# Altium footprint library PLH_ALL.PcbLib: 2 footprints
Each footprint in its own frame and in the unit in brackets; x right, y up, seen from the top. Pads: shape width x height; smd on the part's side, far side on the other; paste and mask are expansions set on the pad; w line width, h text height; cw(c..) or ccw(c..) is an arc to the next point about the centre after c.
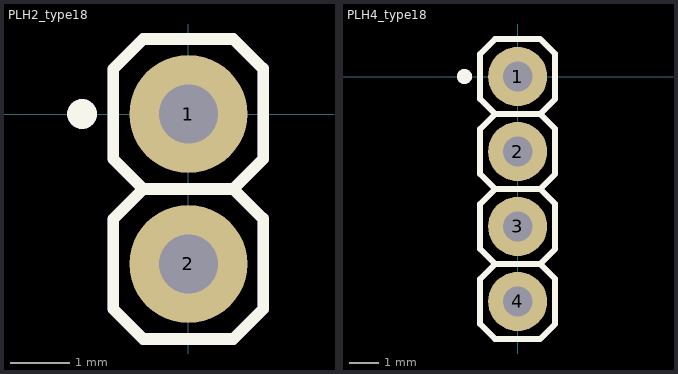
[diagram p0: the footprints below, top view; thin cyan lines are the x and y axes]

## PLH2_type18 [mm] "Connfly https://static.chipdip.ru/lib/530/DOC059530234.pdf"
pads (2):
  round 2 hole 1: 1(0,0) 2(0,-2.54)
Top Overlay:
  circle w0.254: c-1.8,0 r0.125
  lines w0.2: 1.27,-1.778 0.762,-1.27 ; 1.27,-1.77 1.27,-3.302 0.762,-3.81 -0.762,-3.81 -1.27,-3.302 -1.27,-1.778 -0.762,-1.27 ; 1.27,0.762 0.762,1.27 -0.762,1.27 -1.27,0.762 -1.27,-0.762 -0.762,-1.27 ; 1.27,0.77 1.27,-0.762 0.762,-1.27 ; -0.762,-1.27 0.762,-1.27
Bottom Overlay:
  circle w0.254: c-1.8,0 r0.125
Mechanical 13:
  circle w0.254: c-1.8,0 r0.125
  lines w0.2: 1.27,-1.778 0.762,-1.27 ; 1.27,-1.77 1.27,-3.302 0.762,-3.81 -0.762,-3.81 -1.27,-3.302 -1.27,-1.778 -0.762,-1.27 ; 1.27,0.762 0.762,1.27 -0.762,1.27 -1.27,0.762 -1.27,-0.762 -0.762,-1.27 ; 1.27,0.77 1.27,-0.762 0.762,-1.27 ; -0.762,-1.27 0.762,-1.27
  text ".Designator" at -4.2,1.98 h2.15
3D body "User Library-PLS-1.STEP": height 8.44, standoff -3, extent -1.27,-1.27 1.27,1.27
3D body "User Library-PLS-1.STEP": height 8.44, standoff -3, extent -1.27,-3.81 1.27,-1.27
3D body "User Library-PLS-1.STEP": height 16.34, standoff 4.9, extent -1.27,-1.27 1.27,1.27
3D body "User Library-PLS-1.STEP": height 16.34, standoff 4.9, extent -1.27,-3.81 1.27,-1.27

## PLH4_type18 [mm] "Connfly https://static.chipdip.ru/lib/530/DOC059530234.pdf"
pads (4):
  round 2 hole 1: 1(0,0) 2(0,-2.54) 3(0,-5.08) 4(0,-7.62)
Top Overlay:
  circle w0.254: c-1.8,0 r0.125
  lines w0.2: 1.27,-6.858 0.762,-6.35 ; 1.27,-6.85 1.27,-8.382 0.762,-8.89 -0.762,-8.89 -1.27,-8.382 -1.27,-6.858 -0.762,-6.35 ; 1.27,-4.318 0.762,-3.81 ; 1.27,-4.31 1.27,-5.842 0.762,-6.35 ; 1.27,-1.778 0.762,-1.27 ; 1.27,-1.77 1.27,-3.302 0.762,-3.81 ; 1.27,0.762 0.762,1.27 -0.762,1.27 -1.27,0.762 -1.27,-0.762 -0.762,-1.27 ; 1.27,0.77 1.27,-0.762 0.762,-1.27 ; -0.762,-6.35 0.762,-6.35 ; -0.762,-6.35 -1.27,-5.842 -1.27,-4.318 -0.762,-3.81 ; -0.762,-3.81 0.762,-3.81 ; -0.762,-3.81 -1.27,-3.302 -1.27,-1.778 -0.762,-1.27 ; -0.762,-1.27 0.762,-1.27
Bottom Overlay:
  circle w0.254: c-1.8,0 r0.125
Mechanical 13:
  circle w0.254: c-1.8,0 r0.125
  lines w0.2: 1.27,-6.858 0.762,-6.35 ; 1.27,-6.85 1.27,-8.382 0.762,-8.89 -0.762,-8.89 -1.27,-8.382 -1.27,-6.858 -0.762,-6.35 ; 1.27,-4.318 0.762,-3.81 ; 1.27,-4.31 1.27,-5.842 0.762,-6.35 ; 1.27,-1.778 0.762,-1.27 ; 1.27,-1.77 1.27,-3.302 0.762,-3.81 ; 1.27,0.762 0.762,1.27 -0.762,1.27 -1.27,0.762 -1.27,-0.762 -0.762,-1.27 ; 1.27,0.77 1.27,-0.762 0.762,-1.27 ; -0.762,-6.35 -1.27,-5.842 -1.27,-4.318 -0.762,-3.81 ; -0.762,-6.35 0.762,-6.35 ; -0.762,-3.81 -1.27,-3.302 -1.27,-1.778 -0.762,-1.27 ; -0.762,-3.81 0.762,-3.81 ; -0.762,-1.27 0.762,-1.27
  text ".Designator" at -4.2,1.98 h2.15
3D body "User Library-PLS-1.STEP": height 16.34, standoff 4.9, extent -1.27,-8.89 1.27,-6.35
3D body "User Library-PLS-1.STEP": height 16.34, standoff 4.9, extent -1.27,-6.35 1.27,-3.81
3D body "User Library-PLS-1.STEP": height 16.34, standoff 4.9, extent -1.27,-3.81 1.27,-1.27
3D body "User Library-PLS-1.STEP": height 16.34, standoff 4.9, extent -1.27,-1.27 1.27,1.27
3D body "User Library-PLS-1.STEP": height 8.44, standoff -3, extent -1.27,-8.89 1.27,-6.35
3D body "User Library-PLS-1.STEP": height 8.44, standoff -3, extent -1.27,-6.35 1.27,-3.81
3D body "User Library-PLS-1.STEP": height 8.44, standoff -3, extent -1.27,-3.81 1.27,-1.27
3D body "User Library-PLS-1.STEP": height 8.44, standoff -3, extent -1.27,-1.27 1.27,1.27